# EAGLE library part 7414 (library audioint)
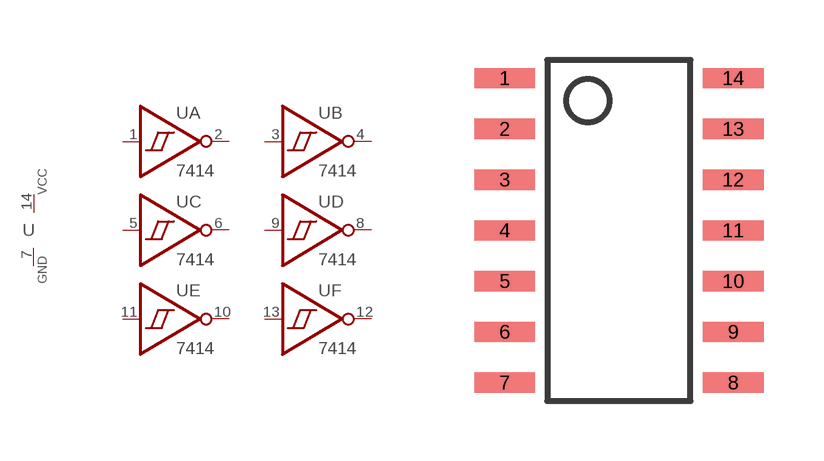
[diagram p34: symbol with the pads of 14-SOIC; footprint 14-SOIC]

Designator prefix U; gates A=7414 B=7414 C=7414 D=7414 E=7414 F=7414 G$7=PWR-GND

## 7414SOIC  [14-SOIC]
1  A:IN  in
2  A:OUT  out
3  B:IN  in
4  B:OUT  out
5  C:IN  in
6  C:OUT  out
7  G$7:GND  pwr
8  D:OUT  out
9  D:IN  in
10  E:OUT  out
11  E:IN  in
12  F:OUT  out
13  F:IN  in
14  G$7:VCC  pwr

## Footprint 14-SOIC (pad centres in mm)
smd 1.524 x 0.508: 1 -2.857,3.81; 2 -2.857,2.54; 3 -2.857,1.27; 4 -2.857,0; 5 -2.857,-1.27; 6 -2.857,-2.54; 7 -2.857,-3.81; 8 2.857,-3.81; 9 2.857,-2.54; 10 2.857,-1.27; 11 2.857,0; 12 2.857,1.27; 13 2.857,2.54; 14 2.857,3.81